# Altium schematic symbol library WR-TBL_Spring Clamp.SchLib: 367 symbols (part 1 of 6)
Pins are listed as number, name and electrical type; pins without a type are passive.

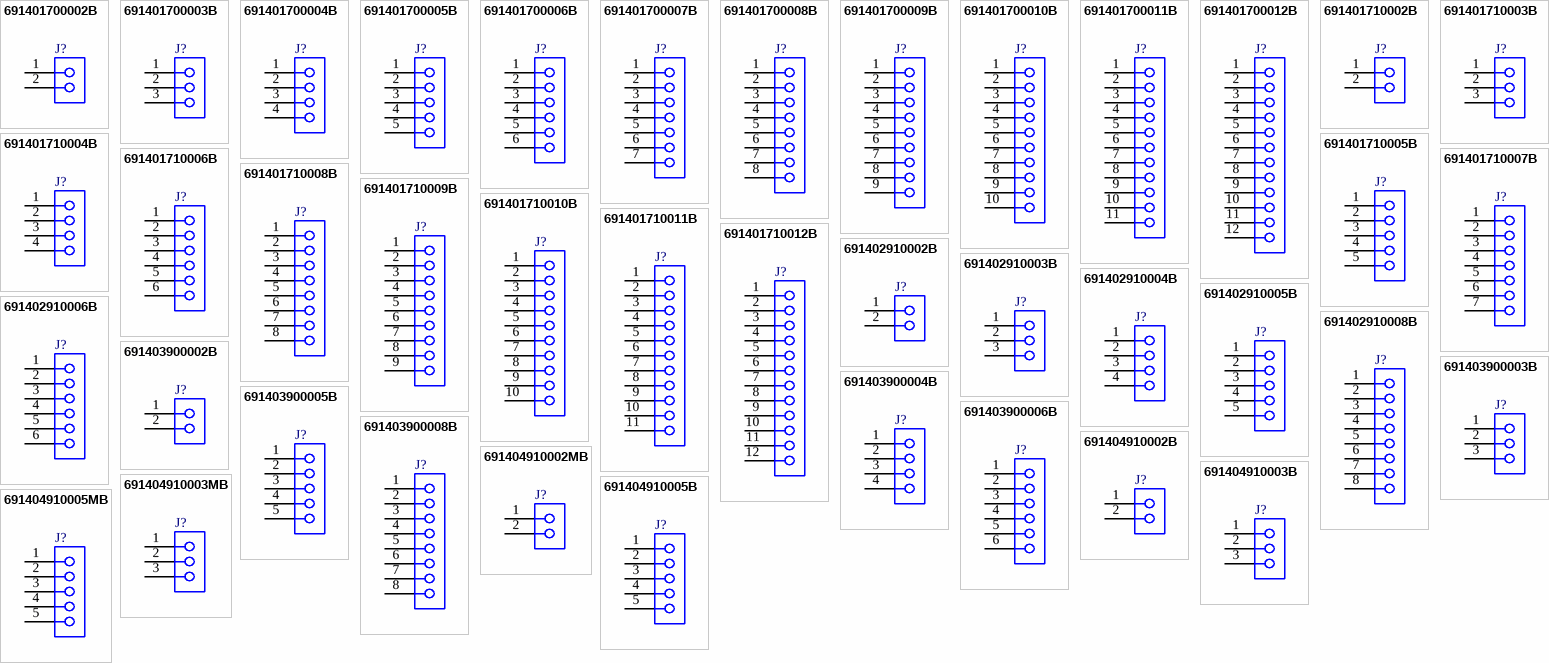
[diagram p0: symbols 691401700002B to 691404910005MB]

## 691401700002B
designator J?  (value not drawn)
WR-TBL Series 401B Vertical Entry, THT, pitch 5mm, 02p; Manufacturer: Wurth Elektronik; Modularity: No; Rated Current: 10A; Wire Section: 14 to 24 (AWG) 0.2 to 2.5 (mm^2); Working Voltage: 300V (AC); Manufacturer Part Number: 691401700002B; Product Series: WR-TBL; ComponentLink1Description: Website Link; ComponentLink1URL: https://www.we-online.com; ComponentLink2Description: Datasheet Link; ComponentLink2URL: https://www.we-online.com/components/products/datasheet/691401700002B; Mount: Through Hole; Operating Temperature Min: -40degC; Operating Temperature Max: 105degC; Packaging: Box; Application: Screwless; Number of Pins: 2; Number of Rows: 1; Orientation: Vertical; Lead Pitch: 5mm
footprint 691401700002B
pins: 1, 2

## 691401700003B
designator J?  (value not drawn)
WR-TBL Series 401B Vertical Entry, THT, pitch 5mm, 03p; Manufacturer: Wurth Elektronik; Modularity: No; Rated Current: 10A; Wire Section: 14 to 24 (AWG) 0.2 to 2.5 (mm^2); Working Voltage: 300V (AC); Manufacturer Part Number: 691401700003B; Product Series: WR-TBL; ComponentLink1Description: Website Link; ComponentLink1URL: https://www.we-online.com; ComponentLink2Description: Datasheet Link; ComponentLink2URL: https://www.we-online.com/components/products/datasheet/691401700003B; Mount: Through Hole; Operating Temperature Min: -40degC; Operating Temperature Max: 105degC; Packaging: Box; Application: Screwless; Number of Pins: 3; Number of Rows: 1; Orientation: Vertical; Lead Pitch: 5mm
footprint 691401700003B
pins: 1, 2, 3

## 691401700004B
designator J?  (value not drawn)
WR-TBL Series 401B Vertical Entry, THT, pitch 5mm, 04p; Manufacturer: Wurth Elektronik; Modularity: No; Rated Current: 10A; Wire Section: 14 to 24 (AWG) 0.2 to 2.5 (mm^2); Working Voltage: 300V (AC); Manufacturer Part Number: 691401700004B; Product Series: WR-TBL; ComponentLink1Description: Website Link; ComponentLink1URL: https://www.we-online.com; ComponentLink2Description: Datasheet Link; ComponentLink2URL: https://www.we-online.com/components/products/datasheet/691401700004B; Mount: Through Hole; Operating Temperature Min: -40degC; Operating Temperature Max: 105degC; Packaging: Box; Application: Screwless; Number of Pins: 4; Number of Rows: 1; Orientation: Vertical; Lead Pitch: 5mm
footprint 691401700004B
pins: 1, 2, 3, 4

## 691401700005B
designator J?  (value not drawn)
WR-TBL Series 401B Vertical Entry, THT, pitch 5mm, 05p; Manufacturer: Wurth Elektronik; Modularity: No; Rated Current: 10A; Wire Section: 14 to 24 (AWG) 0.2 to 2.5 (mm^2); Working Voltage: 300V (AC); Manufacturer Part Number: 691401700005B; Product Series: WR-TBL; ComponentLink1Description: Website Link; ComponentLink1URL: https://www.we-online.com; ComponentLink2Description: Datasheet Link; ComponentLink2URL: https://www.we-online.com/components/products/datasheet/691401700005B; Mount: Through Hole; Operating Temperature Min: -40degC; Operating Temperature Max: 105degC; Packaging: Box; Application: Screwless; Number of Pins: 5; Number of Rows: 1; Orientation: Vertical; Lead Pitch: 5mm
footprint 691401700005B
pins: 1, 2, 3, 4, 5

## 691401700006B
designator J?  (value not drawn)
WR-TBL Series 401B Vertical Entry, THT, pitch 5mm, 06p; Manufacturer: Wurth Elektronik; Modularity: No; Rated Current: 10A; Wire Section: 14 to 24 (AWG) 0.2 to 2.5 (mm^2); Working Voltage: 300V (AC); Manufacturer Part Number: 691401700006B; Product Series: WR-TBL; ComponentLink1Description: Website Link; ComponentLink1URL: https://www.we-online.com; ComponentLink2Description: Datasheet Link; ComponentLink2URL: https://www.we-online.com/components/products/datasheet/691401700006B; Mount: Through Hole; Operating Temperature Min: -40degC; Operating Temperature Max: 105degC; Packaging: Box; Application: Screwless; Number of Pins: 6; Number of Rows: 1; Orientation: Vertical; Lead Pitch: 5mm
footprint 691401700006B
pins: 1, 2, 3, 4, 5, 6

## 691401700007B
designator J?  (value not drawn)
WR-TBL Series 401B Vertical Entry, THT, pitch 5mm, 07p; Manufacturer: Wurth Elektronik; Modularity: No; Rated Current: 10A; Wire Section: 14 to 24 (AWG) 0.2 to 2.5 (mm^2); Working Voltage: 300V (AC); Manufacturer Part Number: 691401700007B; Product Series: WR-TBL; ComponentLink1Description: Website Link; ComponentLink1URL: https://www.we-online.com; ComponentLink2Description: Datasheet Link; ComponentLink2URL: https://www.we-online.com/components/products/datasheet/691401700007B; Mount: Through Hole; Operating Temperature Min: -40degC; Operating Temperature Max: 105degC; Packaging: Box; Application: Screwless; Number of Pins: 7; Number of Rows: 1; Orientation: Vertical; Lead Pitch: 5mm
footprint 691401700007B
pins: 1, 2, 3, 4, 5, 6, 7

## 691401700008B
designator J?  (value not drawn)
WR-TBL Series 401B Vertical Entry, THT, pitch 5mm, 08p; Manufacturer: Wurth Elektronik; Modularity: No; Rated Current: 10A; Wire Section: 14 to 24 (AWG) 0.2 to 2.5 (mm^2); Working Voltage: 300V (AC); Manufacturer Part Number: 691401700008B; Product Series: WR-TBL; ComponentLink1Description: Website Link; ComponentLink1URL: https://www.we-online.com; ComponentLink2Description: Datasheet Link; ComponentLink2URL: https://www.we-online.com/components/products/datasheet/691401700008B; Mount: Through Hole; Operating Temperature Min: -40degC; Operating Temperature Max: 105degC; Packaging: Box; Application: Screwless; Number of Pins: 8; Number of Rows: 1; Orientation: Vertical; Lead Pitch: 5mm
footprint 691401700008B
pins: 1, 2, 3, 4, 5, 6, 7, 8

## 691401700009B
designator J?  (value not drawn)
WR-TBL Series 401B Vertical Entry, THT, pitch 5mm, 09p; Manufacturer: Wurth Elektronik; Modularity: No; Rated Current: 10A; Wire Section: 14 to 24 (AWG) 0.2 to 2.5 (mm^2); Working Voltage: 300V (AC); Manufacturer Part Number: 691401700009B; Product Series: WR-TBL; ComponentLink1Description: Website Link; ComponentLink1URL: https://www.we-online.com; ComponentLink2Description: Datasheet Link; ComponentLink2URL: https://www.we-online.com/components/products/datasheet/691401700009B; Mount: Through Hole; Operating Temperature Min: -40degC; Operating Temperature Max: 105degC; Packaging: Box; Application: Screwless; Number of Pins: 9; Number of Rows: 1; Orientation: Vertical; Lead Pitch: 5mm
footprint 691401700009B
pins: 1, 2, 3, 4, 5, 6, 7, 8, 9

## 691401700010B
designator J?  (value not drawn)
WR-TBL Series 401B Vertical Entry, THT, pitch 5mm, 10p; Manufacturer: Wurth Elektronik; Modularity: No; Rated Current: 10A; Wire Section: 14 to 24 (AWG) 0.2 to 2.5 (mm^2); Working Voltage: 300V (AC); Manufacturer Part Number: 691401700010B; Product Series: WR-TBL; ComponentLink1Description: Website Link; ComponentLink1URL: https://www.we-online.com; ComponentLink2Description: Datasheet Link; ComponentLink2URL: https://www.we-online.com/components/products/datasheet/691401700010B; Mount: Through Hole; Operating Temperature Min: -40degC; Operating Temperature Max: 105degC; Packaging: Box; Application: Screwless; Number of Pins: 10; Number of Rows: 1; Orientation: Vertical; Lead Pitch: 5mm
footprint 691401700010B
pins: 1, 2, 3, 4, 5, 6, 7, 8, 9, 10

## 691401700011B
designator J?  (value not drawn)
WR-TBL Series 401B Vertical Entry, THT, pitch 5mm, 11p; Manufacturer: Wurth Elektronik; Modularity: No; Rated Current: 10A; Wire Section: 14 to 24 (AWG) 0.2 to 2.5 (mm^2); Working Voltage: 300V (AC); Manufacturer Part Number: 691401700011B; Product Series: WR-TBL; ComponentLink1Description: Website Link; ComponentLink1URL: https://www.we-online.com; ComponentLink2Description: Datasheet Link; ComponentLink2URL: https://www.we-online.com/components/products/datasheet/691401700011B; Mount: Through Hole; Operating Temperature Min: -40degC; Operating Temperature Max: 105degC; Packaging: Box; Application: Screwless; Number of Pins: 11; Number of Rows: 1; Orientation: Vertical; Lead Pitch: 5mm
footprint 691401700011B
pins: 1, 2, 3, 4, 5, 6, 7, 8, 9, 10, 11

## 691401700012B
designator J?  (value not drawn)
WR-TBL Series 401B Vertical Entry, THT, pitch 5mm, 12p; Manufacturer: Wurth Elektronik; Modularity: No; Rated Current: 10A; Wire Section: 14 to 24 (AWG) 0.2 to 2.5 (mm^2); Working Voltage: 300V (AC); Manufacturer Part Number: 691401700012B; Product Series: WR-TBL; ComponentLink1Description: Website Link; ComponentLink1URL: https://www.we-online.com; ComponentLink2Description: Datasheet Link; ComponentLink2URL: https://www.we-online.com/components/products/datasheet/691401700012B; Mount: Through Hole; Operating Temperature Min: -40degC; Operating Temperature Max: 105degC; Packaging: Box; Application: Screwless; Number of Pins: 12; Number of Rows: 1; Orientation: Vertical; Lead Pitch: 5mm
footprint 691401700012B
pins: 1, 2, 3, 4, 5, 6, 7, 8, 9, 10, 11, 12

## 691401710002B
designator J?  (value not drawn)
WR-TBL Series 401B Horizontal Entry, THT, pitch 5mm, 02p; Manufacturer: Wurth Elektronik; Modularity: No; Rated Current: 10A; Wire Section: 14 to 24 (AWG) 0.2 to 2.5 (mm^2); Working Voltage: 300V (AC); Manufacturer Part Number: 691401710002B; Product Series: WR-TBL; ComponentLink1Description: Website Link; ComponentLink1URL: https://www.we-online.com; ComponentLink2Description: Datasheet Link; ComponentLink2URL: https://www.we-online.com/components/products/datasheet/691401710002B; Mount: Through Hole; Operating Temperature Min: -40degC; Operating Temperature Max: 105degC; Packaging: Box; Application: Screwless; Number of Pins: 2; Number of Rows: 1; Orientation: Horizontal; Lead Pitch: 5mm
footprint 691401710002B
pins: 1, 2

## 691401710003B
designator J?  (value not drawn)
WR-TBL Series 401B Horizontal Entry, THT, pitch 5mm, 03p; Manufacturer: Wurth Elektronik; Modularity: No; Rated Current: 10A; Wire Section: 14 to 24 (AWG) 0.2 to 2.5 (mm^2); Working Voltage: 300V (AC); Manufacturer Part Number: 691401710003B; Product Series: WR-TBL; ComponentLink1Description: Website Link; ComponentLink1URL: https://www.we-online.com; ComponentLink2Description: Datasheet Link; ComponentLink2URL: https://www.we-online.com/components/products/datasheet/691401710003B; Mount: Through Hole; Operating Temperature Min: -40degC; Operating Temperature Max: 105degC; Packaging: Box; Application: Screwless; Number of Pins: 3; Number of Rows: 1; Orientation: Horizontal; Lead Pitch: 5mm
footprint 691401710003B
pins: 1, 2, 3

## 691401710004B
designator J?  (value not drawn)
WR-TBL Series 401B Horizontal Entry, THT, pitch 5mm, 04p; Manufacturer: Wurth Elektronik; Modularity: No; Rated Current: 10A; Wire Section: 14 to 24 (AWG) 0.2 to 2.5 (mm^2); Working Voltage: 300V (AC); Manufacturer Part Number: 691401710004B; Product Series: WR-TBL; ComponentLink1Description: Website Link; ComponentLink1URL: https://www.we-online.com; ComponentLink2Description: Datasheet Link; ComponentLink2URL: https://www.we-online.com/components/products/datasheet/691401710004B; Mount: Through Hole; Operating Temperature Min: -40degC; Operating Temperature Max: 105degC; Packaging: Box; Application: Screwless; Number of Pins: 4; Number of Rows: 1; Orientation: Horizontal; Lead Pitch: 5mm
footprint 691401710004B
pins: 1, 2, 3, 4

## 691401710005B
designator J?  (value not drawn)
WR-TBL Series 401B Horizontal Entry, THT, pitch 5mm, 05p; Manufacturer: Wurth Elektronik; Modularity: No; Rated Current: 10A; Wire Section: 14 to 24 (AWG) 0.2 to 2.5 (mm^2); Working Voltage: 300V (AC); Manufacturer Part Number: 691401710005B; Product Series: WR-TBL; ComponentLink1Description: Website Link; ComponentLink1URL: https://www.we-online.com; ComponentLink2Description: Datasheet Link; ComponentLink2URL: https://www.we-online.com/components/products/datasheet/691401710005B; Mount: Through Hole; Operating Temperature Min: -40degC; Operating Temperature Max: 105degC; Packaging: Box; Application: Screwless; Number of Pins: 5; Number of Rows: 1; Orientation: Horizontal; Lead Pitch: 5mm
footprint 691401710005B
pins: 1, 2, 3, 4, 5

## 691401710006B
designator J?  (value not drawn)
WR-TBL Series 401B Horizontal Entry, THT, pitch 5mm, 06p; Manufacturer: Wurth Elektronik; Modularity: No; Rated Current: 10A; Wire Section: 14 to 24 (AWG) 0.2 to 2.5 (mm^2); Working Voltage: 300V (AC); Manufacturer Part Number: 691401710006B; Product Series: WR-TBL; ComponentLink1Description: Website Link; ComponentLink1URL: https://www.we-online.com; ComponentLink2Description: Datasheet Link; ComponentLink2URL: https://www.we-online.com/components/products/datasheet/691401710006B; Mount: Through Hole; Operating Temperature Min: -40degC; Operating Temperature Max: 105degC; Packaging: Box; Application: Screwless; Number of Pins: 6; Number of Rows: 1; Orientation: Horizontal; Lead Pitch: 5mm
footprint 691401710006B
pins: 1, 2, 3, 4, 5, 6

## 691401710007B
designator J?  (value not drawn)
WR-TBL Series 401B Horizontal Entry, THT, pitch 5mm, 07p; Manufacturer: Wurth Elektronik; Modularity: No; Rated Current: 10A; Wire Section: 14 to 24 (AWG) 0.2 to 2.5 (mm^2); Working Voltage: 300V (AC); Manufacturer Part Number: 691401710007B; Product Series: WR-TBL; ComponentLink1Description: Website Link; ComponentLink1URL: https://www.we-online.com; ComponentLink2Description: Datasheet Link; ComponentLink2URL: https://www.we-online.com/components/products/datasheet/691401710007B; Mount: Through Hole; Operating Temperature Min: -40degC; Operating Temperature Max: 105degC; Packaging: Box; Application: Screwless; Number of Pins: 7; Number of Rows: 1; Orientation: Horizontal; Lead Pitch: 5mm
footprint 691401710007B
pins: 1, 2, 3, 4, 5, 6, 7

## 691401710008B
designator J?  (value not drawn)
WR-TBL Series 401B Horizontal Entry, THT, pitch 5mm, 08p; Manufacturer: Wurth Elektronik; Modularity: No; Rated Current: 10A; Wire Section: 14 to 24 (AWG) 0.2 to 2.5 (mm^2); Working Voltage: 300V (AC); Manufacturer Part Number: 691401710008B; Product Series: WR-TBL; ComponentLink1Description: Website Link; ComponentLink1URL: https://www.we-online.com; ComponentLink2Description: Datasheet Link; ComponentLink2URL: https://www.we-online.com/components/products/datasheet/691401710008B; Mount: Through Hole; Operating Temperature Min: -40degC; Operating Temperature Max: 105degC; Packaging: Box; Application: Screwless; Number of Pins: 8; Number of Rows: 1; Orientation: Horizontal; Lead Pitch: 5mm
footprint 691401710008B
pins: 1, 2, 3, 4, 5, 6, 7, 8

## 691401710009B
designator J?  (value not drawn)
WR-TBL Series 401B Horizontal Entry, THT, pitch 5mm, 09p; Manufacturer: Wurth Elektronik; Modularity: No; Rated Current: 10A; Wire Section: 14 to 24 (AWG) 0.2 to 2.5 (mm^2); Working Voltage: 300V (AC); Manufacturer Part Number: 691401710009B; Product Series: WR-TBL; ComponentLink1Description: Website Link; ComponentLink1URL: https://www.we-online.com; ComponentLink2Description: Datasheet Link; ComponentLink2URL: https://www.we-online.com/components/products/datasheet/691401710009B; Mount: Through Hole; Operating Temperature Min: -40degC; Operating Temperature Max: 105degC; Packaging: Box; Application: Screwless; Number of Pins: 9; Number of Rows: 1; Orientation: Horizontal; Lead Pitch: 5mm
footprint 691401710009B
pins: 1, 2, 3, 4, 5, 6, 7, 8, 9

## 691401710010B
designator J?  (value not drawn)
WR-TBL Series 401B Horizontal Entry, THT, pitch 5mm, 10p; Manufacturer: Wurth Elektronik; Modularity: No; Rated Current: 10A; Wire Section: 14 to 24 (AWG) 0.2 to 2.5 (mm^2); Working Voltage: 300V (AC); Manufacturer Part Number: 691401710010B; Product Series: WR-TBL; ComponentLink1Description: Website Link; ComponentLink1URL: https://www.we-online.com; ComponentLink2Description: Datasheet Link; ComponentLink2URL: https://www.we-online.com/components/products/datasheet/691401710010B; Mount: Through Hole; Operating Temperature Min: -40degC; Operating Temperature Max: 105degC; Packaging: Box; Application: Screwless; Number of Pins: 10; Number of Rows: 1; Orientation: Horizontal; Lead Pitch: 5mm
footprint 691401710010B
pins: 1, 2, 3, 4, 5, 6, 7, 8, 9, 10

## 691401710011B
designator J?  (value not drawn)
WR-TBL Series 401B Horizontal Entry, THT, pitch 5mm, 11p; Manufacturer: Wurth Elektronik; Modularity: No; Rated Current: 10A; Wire Section: 14 to 24 (AWG) 0.2 to 2.5 (mm^2); Working Voltage: 300V (AC); Manufacturer Part Number: 691401710011B; Product Series: WR-TBL; ComponentLink1Description: Website Link; ComponentLink1URL: https://www.we-online.com; ComponentLink2Description: Datasheet Link; ComponentLink2URL: https://www.we-online.com/components/products/datasheet/691401710011B; Mount: Through Hole; Operating Temperature Min: -40degC; Operating Temperature Max: 105degC; Packaging: Box; Application: Screwless; Number of Pins: 11; Number of Rows: 1; Orientation: Horizontal; Lead Pitch: 5mm
footprint 691401710011B
pins: 1, 2, 3, 4, 5, 6, 7, 8, 9, 10, 11

## 691401710012B
designator J?  (value not drawn)
WR-TBL Series 401B Horizontal Entry, THT, pitch 5mm, 12p; Manufacturer: Wurth Elektronik; Modularity: No; Rated Current: 10A; Wire Section: 14 to 24 (AWG) 0.2 to 2.5 (mm^2); Working Voltage: 300V (AC); Manufacturer Part Number: 691401710012B; Product Series: WR-TBL; ComponentLink1Description: Website Link; ComponentLink1URL: https://www.we-online.com; ComponentLink2Description: Datasheet Link; ComponentLink2URL: https://www.we-online.com/components/products/datasheet/691401710012B; Mount: Through Hole; Operating Temperature Min: -40degC; Operating Temperature Max: 105degC; Packaging: Box; Application: Screwless; Number of Pins: 12; Number of Rows: 1; Orientation: Horizontal; Lead Pitch: 5mm
footprint 691401710012B
pins: 1, 2, 3, 4, 5, 6, 7, 8, 9, 10, 11, 12

## 691402910002B
designator J?  (value not drawn)
WR-TBL Series 4029 Horizontal Entry, THT, pitch 2.54mm, 02p; Manufacturer: Wurth Elektronik; Modularity: No; Rated Current: 6A; Wire Section: 20 to 26 (AWG) 0.518 to 0.129 (mm^2); Working Voltage: 150V (AC); Manufacturer Part Number: 691402910002B; Product Series: WR-TBL; ComponentLink1Description: Website Link; ComponentLink1URL: https://www.we-online.com; ComponentLink2Description: Datasheet Link; ComponentLink2URL: https://www.we-online.com/components/products/datasheet/691402910002B; Mount: Through Hole; Operating Temperature Min: -40degC; Operating Temperature Max: 105degC; Packaging: Box; Application: Screwless; Number of Pins: 2; Number of Rows: 1; Orientation: Horizontal; Lead Pitch: 2.54mm
footprint 691402910002B
pins: 1, 2

## 691402910003B
designator J?  (value not drawn)
WR-TBL Series 4029 Horizontal Entry, THT, pitch 2.54mm, 03p; Manufacturer: Wurth Elektronik; Modularity: No; Rated Current: 6A; Wire Section: 20 to 26 (AWG) 0.518 to 0.129 (mm^2); Working Voltage: 150V (AC); Manufacturer Part Number: 691402910003B; Product Series: WR-TBL; ComponentLink1Description: Website Link; ComponentLink1URL: https://www.we-online.com; ComponentLink2Description: Datasheet Link; ComponentLink2URL: https://www.we-online.com/components/products/datasheet/691402910003B; Mount: Through Hole; Operating Temperature Min: -40degC; Operating Temperature Max: 105degC; Packaging: Box; Application: Screwless; Number of Pins: 3; Number of Rows: 1; Orientation: Horizontal; Lead Pitch: 2.54mm
footprint 691402910003B
pins: 1, 2, 3

## 691402910004B
designator J?  (value not drawn)
WR-TBL Series 4029 Horizontal Entry, THT, pitch 2.54mm, 04p; Manufacturer: Wurth Elektronik; Modularity: No; Rated Current: 6A; Wire Section: 20 to 26 (AWG) 0.518 to 0.129 (mm^2); Working Voltage: 150V (AC); Manufacturer Part Number: 691402910004B; Product Series: WR-TBL; ComponentLink1Description: Website Link; ComponentLink1URL: https://www.we-online.com; ComponentLink2Description: Datasheet Link; ComponentLink2URL: https://www.we-online.com/components/products/datasheet/691402910004B; Mount: Through Hole; Operating Temperature Min: -40degC; Operating Temperature Max: 105degC; Packaging: Box; Application: Screwless; Number of Pins: 4; Number of Rows: 1; Orientation: Horizontal; Lead Pitch: 2.54mm
footprint 691402910004B
pins: 1, 2, 3, 4

## 691402910005B
designator J?  (value not drawn)
WR-TBL Series 4029 Horizontal Entry, THT, pitch 2.54mm, 05p; Manufacturer: Wurth Elektronik; Modularity: No; Rated Current: 6A; Wire Section: 20 to 26 (AWG) 0.518 to 0.129 (mm^2); Working Voltage: 150V (AC); Manufacturer Part Number: 691402910005B; Product Series: WR-TBL; ComponentLink1Description: Website Link; ComponentLink1URL: https://www.we-online.com; ComponentLink2Description: Datasheet Link; ComponentLink2URL: https://www.we-online.com/components/products/datasheet/691402910005B; Mount: Through Hole; Operating Temperature Min: -40degC; Operating Temperature Max: 105degC; Packaging: Box; Application: Screwless; Number of Pins: 5; Number of Rows: 1; Orientation: Horizontal; Lead Pitch: 2.54mm
footprint 691402910005B
pins: 1, 2, 3, 4, 5

## 691402910006B
designator J?  (value not drawn)
WR-TBL Series 4029 Horizontal Entry, THT, pitch 2.54mm, 06p; Manufacturer: Wurth Elektronik; Modularity: No; Rated Current: 6A; Wire Section: 20 to 26 (AWG) 0.518 to 0.129 (mm^2); Working Voltage: 150V (AC); Manufacturer Part Number: 691402910006B; Product Series: WR-TBL; ComponentLink1Description: Website Link; ComponentLink1URL: https://www.we-online.com; ComponentLink2Description: Datasheet Link; ComponentLink2URL: https://www.we-online.com/components/products/datasheet/691402910006B; Mount: Through Hole; Operating Temperature Min: -40degC; Operating Temperature Max: 105degC; Packaging: Box; Application: Screwless; Number of Pins: 6; Number of Rows: 1; Orientation: Horizontal; Lead Pitch: 2.54mm
footprint 691402910006B
pins: 1, 2, 3, 4, 5, 6

## 691402910008B
designator J?  (value not drawn)
WR-TBL Series 4029 Horizontal Entry, THT, pitch 2.54mm, 08p; Manufacturer: Wurth Elektronik; Modularity: No; Rated Current: 6A; Wire Section: 20 to 26 (AWG) 0.518 to 0.129 (mm^2); Working Voltage: 150V (AC); Manufacturer Part Number: 691402910008B; Product Series: WR-TBL; ComponentLink1Description: Website Link; ComponentLink1URL: https://www.we-online.com; ComponentLink2Description: Datasheet Link; ComponentLink2URL: https://www.we-online.com/components/products/datasheet/691402910008B; Mount: Through Hole; Operating Temperature Min: -40degC; Operating Temperature Max: 105degC; Packaging: Box; Application: Screwless; Number of Pins: 8; Number of Rows: 1; Orientation: Horizontal; Lead Pitch: 2.54mm
footprint 691402910008B
pins: 1, 2, 3, 4, 5, 6, 7, 8

## 691403900002B
designator J?  (value not drawn)
WR-TBL Series 4039 Vertical Entry, THT, pitch 2.54mm, 02p; Manufacturer: Wurth Elektronik; Modularity: No; Rated Current: 6A; Wire Section: 20 to 26 (AWG) 0.518 to 0.129 (mm^2); Working Voltage: 150V (AC); Manufacturer Part Number: 691403900002B; Product Series: WR-TBL; ComponentLink1Description: Website Link; ComponentLink1URL: https://www.we-online.com; ComponentLink2Description: Datasheet Link; ComponentLink2URL: https://www.we-online.com/components/products/datasheet/691403900002B; Mount: Through Hole; Operating Temperature Min: -40degC; Operating Temperature Max: 105degC; Packaging: Box; Application: Screwless; Number of Pins: 2; Number of Rows: 1; Orientation: Vertical; Lead Pitch: 2.54mm
footprint 691403900002B
pins: 1, 2

## 691403900003B
designator J?  (value not drawn)
WR-TBL Series 4039 Vertical Entry, THT, pitch 2.54mm, 03p; Manufacturer: Wurth Elektronik; Modularity: No; Rated Current: 6A; Wire Section: 20 to 26 (AWG) 0.518 to 0.129 (mm^2); Working Voltage: 150V (AC); Manufacturer Part Number: 691403900003B; Product Series: WR-TBL; ComponentLink1Description: Website Link; ComponentLink1URL: https://www.we-online.com; ComponentLink2Description: Datasheet Link; ComponentLink2URL: https://www.we-online.com/components/products/datasheet/691403900003B; Mount: Through Hole; Operating Temperature Min: -40degC; Operating Temperature Max: 105degC; Packaging: Box; Application: Screwless; Number of Pins: 3; Number of Rows: 1; Orientation: Vertical; Lead Pitch: 2.54mm
footprint 691403900003B
pins: 1, 2, 3

## 691403900004B
designator J?  (value not drawn)
WR-TBL Series 4039 Vertical Entry, THT, pitch 2.54mm, 04p; Manufacturer: Wurth Elektronik; Modularity: No; Rated Current: 6A; Wire Section: 20 to 26 (AWG) 0.518 to 0.129 (mm^2); Working Voltage: 150V (AC); Manufacturer Part Number: 691403900004B; Product Series: WR-TBL; ComponentLink1Description: Website Link; ComponentLink1URL: https://www.we-online.com; ComponentLink2Description: Datasheet Link; ComponentLink2URL: https://www.we-online.com/components/products/datasheet/691403900004B; Mount: Through Hole; Operating Temperature Min: -40degC; Operating Temperature Max: 105degC; Packaging: Box; Application: Screwless; Number of Pins: 4; Number of Rows: 1; Orientation: Vertical; Lead Pitch: 2.54mm
footprint 691403900004B
pins: 1, 2, 3, 4

## 691403900005B
designator J?  (value not drawn)
WR-TBL Series 4039 Vertical Entry, THT, pitch 2.54mm, 05p; Manufacturer: Wurth Elektronik; Modularity: No; Rated Current: 6A; Wire Section: 20 to 26 (AWG) 0.518 to 0.129 (mm^2); Working Voltage: 150V (AC); Manufacturer Part Number: 691403900005B; Product Series: WR-TBL; ComponentLink1Description: Website Link; ComponentLink1URL: https://www.we-online.com; ComponentLink2Description: Datasheet Link; ComponentLink2URL: https://www.we-online.com/components/products/datasheet/691403900005B; Mount: Through Hole; Operating Temperature Min: -40degC; Operating Temperature Max: 105degC; Packaging: Box; Application: Screwless; Number of Pins: 5; Number of Rows: 1; Orientation: Vertical; Lead Pitch: 2.54mm
footprint 691403900005B
pins: 1, 2, 3, 4, 5

## 691403900006B
designator J?  (value not drawn)
WR-TBL Series 4039 Vertical Entry, THT, pitch 2.54mm, 06p; Manufacturer: Wurth Elektronik; Modularity: No; Rated Current: 6A; Wire Section: 20 to 26 (AWG) 0.518 to 0.129 (mm^2); Working Voltage: 150V (AC); Manufacturer Part Number: 691403900006B; Product Series: WR-TBL; ComponentLink1Description: Website Link; ComponentLink1URL: https://www.we-online.com; ComponentLink2Description: Datasheet Link; ComponentLink2URL: https://www.we-online.com/components/products/datasheet/691403900006B; Mount: Through Hole; Operating Temperature Min: -40degC; Operating Temperature Max: 105degC; Packaging: Box; Application: Screwless; Number of Pins: 6; Number of Rows: 1; Orientation: Vertical; Lead Pitch: 2.54mm
footprint 691403900006B
pins: 1, 2, 3, 4, 5, 6

## 691403900008B
designator J?  (value not drawn)
WR-TBL Series 4039 Vertical Entry, THT, pitch 2.54mm, 08p; Manufacturer: Wurth Elektronik; Modularity: No; Rated Current: 6A; Wire Section: 20 to 26 (AWG) 0.518 to 0.129 (mm^2); Working Voltage: 150V (AC); Manufacturer Part Number: 691403900008B; Product Series: WR-TBL; ComponentLink1Description: Website Link; ComponentLink1URL: https://www.we-online.com; ComponentLink2Description: Datasheet Link; ComponentLink2URL: https://www.we-online.com/components/products/datasheet/691403900008B; Mount: Through Hole; Operating Temperature Min: -40degC; Operating Temperature Max: 105degC; Packaging: Box; Application: Screwless; Number of Pins: 8; Number of Rows: 1; Orientation: Vertical; Lead Pitch: 2.54mm
footprint 691403900008B
pins: 1, 2, 3, 4, 5, 6, 7, 8

## 691404910002B
designator J?  (value not drawn)
WR-TBL Series 4049B Horizontal Power Connector, THT, pitch 7.5mm, 02p; Manufacturer: Wurth Elektronik; Modularity: No; Rated Current: 30A; Wire Section: 10 to 24 (AWG) 5.26 to 0.205 (mm^2); Working Voltage: 600V (AC); Manufacturer Part Number: 691404910002B; Product Series: WR-TBL; ComponentLink1Description: Website Link; ComponentLink1URL: https://www.we-online.com; ComponentLink2Description: Datasheet Link; ComponentLink2URL: https://www.we-online.com/components/products/datasheet/691404910002B; Mount: Through Hole; Operating Temperature Min: -40degC; Operating Temperature Max: 105degC; Packaging: Box; Application: Screwless; Number of Pins: 2; Number of Rows: 1; Orientation: Horizontal Power Connector; Lead Pitch: 7.5mm
footprint 691404910002B
pins: 1, 2

## 691404910002MB
designator J?  (value not drawn)
WR-TBL Series 4049MB Horizontal Power Connector, THT, pitch 7.5mm, 02p; Manufacturer: Wurth Elektronik; Modularity: No; Rated Current: 30A; Wire Section: 10 to 24 (AWG) 5.26 to 0.205 (mm^2); Working Voltage: 600V (AC); Manufacturer Part Number: 691404910002MB; Product Series: WR-TBL; ComponentLink1Description: Website Link; ComponentLink1URL: https://www.we-online.com; ComponentLink2Description: Datasheet Link; ComponentLink2URL: https://www.we-online.com/components/products/datasheet/691404910002MB; Mount: Through Hole; Operating Temperature Min: -40degC; Operating Temperature Max: 105degC; Packaging: Box; Application: Screwless; Number of Pins: 2; Number of Rows: 1; Orientation: Horizontal Power Connector; Lead Pitch: 7.5mm
footprint 691404910002MB
pins: 1, 2

## 691404910003B
designator J?  (value not drawn)
WR-TBL Series 4049B Horizontal Power Connector, THT, pitch 7.5mm, 03p; Manufacturer: Wurth Elektronik; Modularity: No; Rated Current: 30A; Wire Section: 10 to 24 (AWG) 5.26 to 0.205 (mm^2); Working Voltage: 600V (AC); Manufacturer Part Number: 691404910003B; Product Series: WR-TBL; ComponentLink1Description: Website Link; ComponentLink1URL: https://www.we-online.com; ComponentLink2Description: Datasheet Link; ComponentLink2URL: https://www.we-online.com/components/products/datasheet/691404910003B; Mount: Through Hole; Operating Temperature Min: -40degC; Operating Temperature Max: 105degC; Packaging: Box; Application: Screwless; Number of Pins: 3; Number of Rows: 1; Orientation: Horizontal Power Connector; Lead Pitch: 7.5mm
footprint 691404910003B
pins: 1, 2, 3

## 691404910003MB
designator J?  (value not drawn)
WR-TBL Series 4049MB Horizontal Power Connector, THT, pitch 7.5mm, 03p; Manufacturer: Wurth Elektronik; Modularity: No; Rated Current: 30A; Wire Section: 10 to 24 (AWG) 5.26 to 0.205 (mm^2); Working Voltage: 600V (AC); Manufacturer Part Number: 691404910003MB; Product Series: WR-TBL; ComponentLink1Description: Website Link; ComponentLink1URL: https://www.we-online.com; ComponentLink2Description: Datasheet Link; ComponentLink2URL: https://www.we-online.com/components/products/datasheet/691404910003MB; Mount: Through Hole; Operating Temperature Min: -40degC; Operating Temperature Max: 105degC; Packaging: Box; Application: Screwless; Number of Pins: 3; Number of Rows: 1; Orientation: Horizontal Power Connector; Lead Pitch: 7.5mm
footprint 691404910003MB
pins: 1, 2, 3

## 691404910005B
designator J?  (value not drawn)
WR-TBL Series 4049B Horizontal Power Connector, THT, pitch 7.5mm, 05p; Manufacturer: Wurth Elektronik; Modularity: No; Rated Current: 30A; Wire Section: 10 to 24 (AWG) 5.26 to 0.205 (mm^2); Working Voltage: 600V (AC); Manufacturer Part Number: 691404910005B; Product Series: WR-TBL; ComponentLink1Description: Website Link; ComponentLink1URL: https://www.we-online.com; ComponentLink2Description: Datasheet Link; ComponentLink2URL: https://www.we-online.com/components/products/datasheet/691404910005B; Mount: Through Hole; Operating Temperature Min: -40degC; Operating Temperature Max: 105degC; Packaging: Box; Application: Screwless; Number of Pins: 5; Number of Rows: 1; Orientation: Horizontal Power Connector; Lead Pitch: 7.5mm
footprint 691404910005B
pins: 1, 2, 3, 4, 5

## 691404910005MB
designator J?  (value not drawn)
WR-TBL Series 4049MB Horizontal Power Connector, THT, pitch 7.5mm, 05p; Manufacturer: Wurth Elektronik; Modularity: No; Rated Current: 30A; Wire Section: 10 to 24 (AWG) 5.26 to 0.205 (mm^2); Working Voltage: 600V (AC); Manufacturer Part Number: 691404910005MB; Product Series: WR-TBL; ComponentLink1Description: Website Link; ComponentLink1URL: https://www.we-online.com; ComponentLink2Description: Datasheet Link; ComponentLink2URL: https://www.we-online.com/components/products/datasheet/691404910005MB; Mount: Through Hole; Operating Temperature Min: -40degC; Operating Temperature Max: 105degC; Packaging: Box; Application: Screwless; Number of Pins: 5; Number of Rows: 1; Orientation: Horizontal Power Connector; Lead Pitch: 7.5mm
footprint 691404910005MB
pins: 1, 2, 3, 4, 5

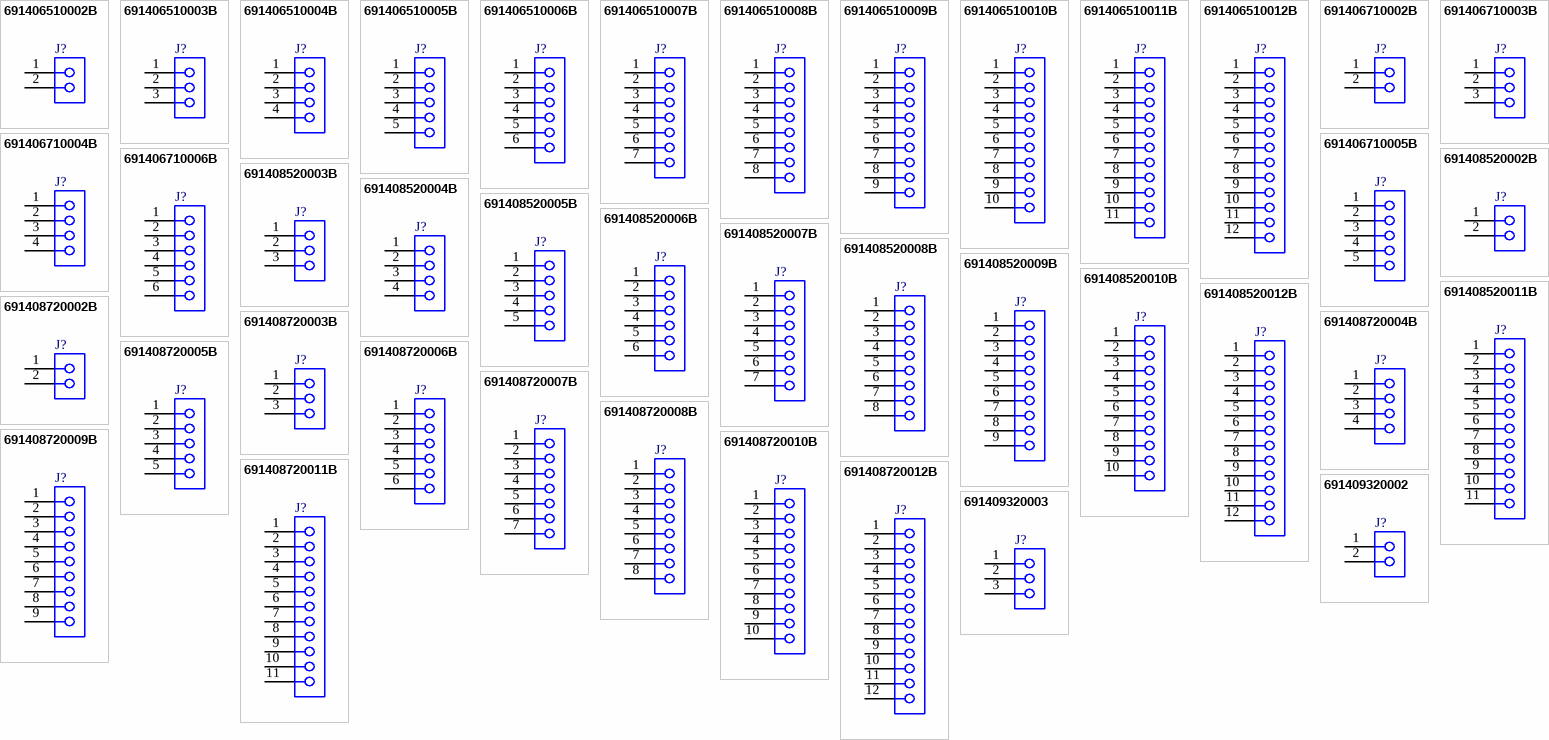
[diagram p1: symbols 691406510002B to 691409320003]

## 691406510002B
designator J?  (value not drawn)
WR-TBL Series 4067B Horizontal cable entry, THT, pitch 5.08mm, 02p; Manufacturer: Wurth Elektronik; Modularity: Yes; Rated Current: 20A; Wire Section: 24 to 12 (AWG) 0.2 to 2.5 (mm^2); Working Voltage: 300V (AC); Manufacturer Part Number: 691406510002B; Product Series: WR-TBL; ComponentLink1Description: Website Link; ComponentLink1URL: https://www.we-online.com; ComponentLink2Description: Datasheet Link; ComponentLink2URL: https://www.we-online.com/components/products/datasheet/691406510002B; Mount: Through Hole; Operating Temperature Min: -40degC; Operating Temperature Max: 105degC; Packaging: Carton; Application: Screwless Push In; Number of Pins: 2; Number of Rows: 1; Orientation: Horizontal Cable Entry; Lead Pitch: 5.08mm
footprint 691406510002B
pins: 1, 2

## 691406510003B
designator J?  (value not drawn)
WR-TBL Series 4067B Horizontal cable entry, THT, pitch 5.08mm, 03p; Manufacturer: Wurth Elektronik; Modularity: Yes; Rated Current: 20A; Wire Section: 24 to 12 (AWG) 0.2 to 2.5 (mm^2); Working Voltage: 300V (AC); Manufacturer Part Number: 691406510003B; Product Series: WR-TBL; ComponentLink1Description: Website Link; ComponentLink1URL: https://www.we-online.com; ComponentLink2Description: Datasheet Link; ComponentLink2URL: https://www.we-online.com/components/products/datasheet/691406510003B; Mount: Through Hole; Operating Temperature Min: -40degC; Operating Temperature Max: 105degC; Packaging: Carton; Application: Screwless Push In; Number of Pins: 3; Number of Rows: 1; Orientation: Horizontal Cable Entry; Lead Pitch: 5.08mm
footprint 691406510003B
pins: 1, 2, 3

## 691406510004B
designator J?  (value not drawn)
WR-TBL Series 4067B Horizontal cable entry, THT, pitch 5.08mm, 04p; Manufacturer: Wurth Elektronik; Modularity: Yes; Rated Current: 20A; Wire Section: 24 to 12 (AWG) 0.2 to 2.5 (mm^2); Working Voltage: 300V (AC); Manufacturer Part Number: 691406510004B; Product Series: WR-TBL; ComponentLink1Description: Website Link; ComponentLink1URL: https://www.we-online.com; ComponentLink2Description: Datasheet Link; ComponentLink2URL: https://www.we-online.com/components/products/datasheet/691406510004B; Mount: Through Hole; Operating Temperature Min: -40degC; Operating Temperature Max: 105degC; Packaging: Carton; Application: Screwless Push In; Number of Pins: 4; Number of Rows: 1; Orientation: Horizontal Cable Entry; Lead Pitch: 5.08mm
footprint 691406510004B
pins: 1, 2, 3, 4

## 691406510005B
designator J?  (value not drawn)
WR-TBL Series 4067B Horizontal cable entry, THT, pitch 5.08mm, 05p; Manufacturer: Wurth Elektronik; Modularity: Yes; Rated Current: 20A; Wire Section: 24 to 12 (AWG) 0.2 to 2.5 (mm^2); Working Voltage: 300V (AC); Manufacturer Part Number: 691406510005B; Product Series: WR-TBL; ComponentLink1Description: Website Link; ComponentLink1URL: https://www.we-online.com; ComponentLink2Description: Datasheet Link; ComponentLink2URL: https://www.we-online.com/components/products/datasheet/691406510005B; Mount: Through Hole; Operating Temperature Min: -40degC; Operating Temperature Max: 105degC; Packaging: Carton; Application: Screwless Push In; Number of Pins: 5; Number of Rows: 1; Orientation: Horizontal Cable Entry; Lead Pitch: 5.08mm
footprint 691406510005B
pins: 1, 2, 3, 4, 5

## 691406510006B
designator J?  (value not drawn)
WR-TBL Series 4067B Horizontal cable entry, THT, pitch 5.08mm, 06p; Manufacturer: Wurth Elektronik; Modularity: Yes; Rated Current: 20A; Wire Section: 24 to 12 (AWG) 0.2 to 2.5 (mm^2); Working Voltage: 300V (AC); Manufacturer Part Number: 691406510006B; Product Series: WR-TBL; ComponentLink1Description: Website Link; ComponentLink1URL: https://www.we-online.com; ComponentLink2Description: Datasheet Link; ComponentLink2URL: https://www.we-online.com/components/products/datasheet/691406510006B; Mount: Through Hole; Operating Temperature Min: -40degC; Operating Temperature Max: 105degC; Packaging: Carton; Application: Screwless Push In; Number of Pins: 6; Number of Rows: 1; Orientation: Horizontal Cable Entry; Lead Pitch: 5.08mm
footprint 691406510006B
pins: 1, 2, 3, 4, 5, 6

## 691406510007B
designator J?  (value not drawn)
WR-TBL Series 4067B Horizontal cable entry, THT, pitch 5.08mm, 07p; Manufacturer: Wurth Elektronik; Modularity: Yes; Rated Current: 20A; Working Voltage: 300V (AC); Manufacturer Part Number: 691406510007B; Product Series: WR-TBL; ComponentLink1Description: Website Link; ComponentLink1URL: https://www.we-online.com; ComponentLink2Description: Datasheet Link; ComponentLink2URL: https://www.we-online.com/components/products/datasheet/691406510007B; Mount: Through Hole; Operating Temperature Min: -40degC; Operating Temperature Max: 105degC; Packaging: Carton; Application: Screwless Push In; Number of Pins: 7; Number of Rows: 1; Orientation: Horizontal Cable Entry; Lead Pitch: 5.08mm
footprint 691406510007B
pins: 1, 2, 3, 4, 5, 6, 7

## 691406510008B
designator J?  (value not drawn)
WR-TBL Series 4067B Horizontal cable entry, THT, pitch 5.08mm, 08p; Manufacturer: Wurth Elektronik; Modularity: Yes; Rated Current: 20A; Working Voltage: 300V (AC); Manufacturer Part Number: 691406510008B; Product Series: WR-TBL; ComponentLink1Description: Website Link; ComponentLink1URL: https://www.we-online.com; ComponentLink2Description: Datasheet Link; ComponentLink2URL: https://www.we-online.com/components/products/datasheet/691406510008B; Mount: Through Hole; Operating Temperature Min: -40degC; Operating Temperature Max: 105degC; Packaging: Carton; Application: Screwless Push In; Number of Pins: 8; Number of Rows: 1; Orientation: Horizontal Cable Entry; Lead Pitch: 5.08mm
footprint 691406510008B
pins: 1, 2, 3, 4, 5, 6, 7, 8

## 691406510009B
designator J?  (value not drawn)
WR-TBL Series 4067B Horizontal cable entry, THT, pitch 5.08mm, 09p; Manufacturer: Wurth Elektronik; Modularity: Yes; Rated Current: 20A; Working Voltage: 300V (AC); Manufacturer Part Number: 691406510009B; Product Series: WR-TBL; ComponentLink1Description: Website Link; ComponentLink1URL: https://www.we-online.com; ComponentLink2Description: Datasheet Link; ComponentLink2URL: https://www.we-online.com/components/products/datasheet/691406510009B; Mount: Through Hole; Operating Temperature Min: -40degC; Operating Temperature Max: 105degC; Packaging: Carton; Application: Screwless Push In; Number of Pins: 9; Number of Rows: 1; Orientation: Horizontal Cable Entry; Lead Pitch: 5.08mm
footprint 691406510009B
pins: 1, 2, 3, 4, 5, 6, 7, 8, 9

## 691406510010B
designator J?  (value not drawn)
WR-TBL Series 4067B Horizontal cable entry, THT, pitch 5.08mm, 10p; Manufacturer: Wurth Elektronik; Modularity: Yes; Rated Current: 20A; Working Voltage: 300V (AC); Manufacturer Part Number: 691406510010B; Product Series: WR-TBL; ComponentLink1Description: Website Link; ComponentLink1URL: https://www.we-online.com; ComponentLink2Description: Datasheet Link; ComponentLink2URL: https://www.we-online.com/components/products/datasheet/691406510010B; Mount: Through Hole; Operating Temperature Min: -40degC; Operating Temperature Max: 105degC; Packaging: Carton; Application: Screwless Push In; Number of Pins: 10; Number of Rows: 1; Orientation: Horizontal Cable Entry; Lead Pitch: 5.08mm
footprint 691406510010B
pins: 1, 2, 3, 4, 5, 6, 7, 8, 9, 10

## 691406510011B
designator J?  (value not drawn)
WR-TBL Series 4067B Horizontal cable entry, THT, pitch 5.08mm, 11p; Manufacturer: Wurth Elektronik; Modularity: Yes; Rated Current: 20A; Working Voltage: 300V (AC); Manufacturer Part Number: 691406510011B; Product Series: WR-TBL; ComponentLink1Description: Website Link; ComponentLink1URL: https://www.we-online.com; ComponentLink2Description: Datasheet Link; ComponentLink2URL: https://www.we-online.com/components/products/datasheet/691406510011B; Mount: Through Hole; Operating Temperature Min: -40degC; Operating Temperature Max: 105degC; Packaging: Carton; Application: Screwless Push In; Number of Pins: 11; Number of Rows: 1; Orientation: Horizontal Cable Entry; Lead Pitch: 5.08mm
footprint 691406510011B
pins: 1, 2, 3, 4, 5, 6, 7, 8, 9, 10, 11

## 691406510012B
designator J?  (value not drawn)
WR-TBL Series 4067B Horizontal cable entry, THT, pitch 5.08mm, 12p; Manufacturer: Wurth Elektronik; Modularity: Yes; Rated Current: 20A; Working Voltage: 300V (AC); Manufacturer Part Number: 691406510012B; Product Series: WR-TBL; ComponentLink1Description: Website Link; ComponentLink1URL: https://www.we-online.com; ComponentLink2Description: Datasheet Link; ComponentLink2URL: https://www.we-online.com/components/products/datasheet/691406510012B; Mount: Through Hole; Operating Temperature Min: -40degC; Operating Temperature Max: 105degC; Packaging: Carton; Application: Screwless Push In; Number of Pins: 12; Number of Rows: 1; Orientation: Horizontal Cable Entry; Lead Pitch: 5.08mm
footprint 691406510012B
pins: 1, 2, 3, 4, 5, 6, 7, 8, 9, 10, 11, 12

## 691406710002B
designator J?  (value not drawn)
WR-TBL Series 4065B Horizontal cable entry, THT, pitch 5mm, 02p; Manufacturer: Wurth Elektronik; Modularity: Yes; Rated Current: 20A; Wire Section: 24 to 12 (AWG) 0.2 to 2.5 (mm^2); Working Voltage: 300V (AC); Manufacturer Part Number: 691406710002B; Product Series: WR-TBL; ComponentLink1Description: Website Link; ComponentLink1URL: https://www.we-online.com; ComponentLink2Description: Datasheet Link; ComponentLink2URL: https://www.we-online.com/components/products/datasheet/691406710002B; Mount: Through Hole; Operating Temperature Min: -40degC; Operating Temperature Max: 105degC; Packaging: Carton; Application: Screwless Push In; Number of Pins: 2; Number of Rows: 1; Orientation: Horizontal Cable Entry; Lead Pitch: 5mm
footprint 691406710002B
pins: 1, 2

## 691406710003B
designator J?  (value not drawn)
WR-TBL Series 4065B Horizontal cable entry, THT, pitch 5mm, 03p; Manufacturer: Wurth Elektronik; Modularity: Yes; Rated Current: 20A; Wire Section: 24 to 12 (AWG) 0.2 to 2.5 (mm^2); Working Voltage: 300V (AC); Manufacturer Part Number: 691406710003B; Product Series: WR-TBL; ComponentLink1Description: Website Link; ComponentLink1URL: https://www.we-online.com; ComponentLink2Description: Datasheet Link; ComponentLink2URL: https://www.we-online.com/components/products/datasheet/691406710003B; Mount: Through Hole; Operating Temperature Min: -40degC; Operating Temperature Max: 105degC; Packaging: Carton; Application: Screwless Push In; Number of Pins: 3; Number of Rows: 1; Orientation: Horizontal Cable Entry; Lead Pitch: 5mm
footprint 691406710003B
pins: 1, 2, 3

## 691406710004B
designator J?  (value not drawn)
WR-TBL Series 4065B Horizontal cable entry, THT, pitch 5mm, 04p; Manufacturer: Wurth Elektronik; Modularity: Yes; Rated Current: 20A; Wire Section: 24 to 12 (AWG) 0.2 to 2.5 (mm^2); Working Voltage: 300V (AC); Manufacturer Part Number: 691406710004B; Product Series: WR-TBL; ComponentLink1Description: Website Link; ComponentLink1URL: https://www.we-online.com; ComponentLink2Description: Datasheet Link; ComponentLink2URL: https://www.we-online.com/components/products/datasheet/691406710004B; Mount: Through Hole; Operating Temperature Min: -40degC; Operating Temperature Max: 105degC; Packaging: Carton; Application: Screwless Push In; Number of Pins: 4; Number of Rows: 1; Orientation: Horizontal Cable Entry; Lead Pitch: 5mm
footprint 691406710004B
pins: 1, 2, 3, 4

## 691406710005B
designator J?  (value not drawn)
WR-TBL Series 4065B Horizontal cable entry, THT, pitch 5mm, 05p; Manufacturer: Wurth Elektronik; Modularity: Yes; Rated Current: 20A; Wire Section: 24 to 12 (AWG) 0.2 to 2.5 (mm^2); Working Voltage: 300V (AC); Manufacturer Part Number: 691406710005B; Product Series: WR-TBL; ComponentLink1Description: Website Link; ComponentLink1URL: https://www.we-online.com; ComponentLink2Description: Datasheet Link; ComponentLink2URL: https://www.we-online.com/components/products/datasheet/691406710005B; Mount: Through Hole; Operating Temperature Min: -40degC; Operating Temperature Max: 105degC; Packaging: Carton; Application: Screwless Push In; Number of Pins: 5; Number of Rows: 1; Orientation: Horizontal Cable Entry; Lead Pitch: 5mm
footprint 691406710005B
pins: 1, 2, 3, 4, 5

## 691406710006B
designator J?  (value not drawn)
WR-TBL Series 4065B Horizontal cable entry, THT, pitch 5mm, 06p; Manufacturer: Wurth Elektronik; Modularity: Yes; Rated Current: 20A; Wire Section: 24 to 12 (AWG) 0.2 to 2.5 (mm^2); Working Voltage: 300V (AC); Manufacturer Part Number: 691406710006B; Product Series: WR-TBL; ComponentLink1Description: Website Link; ComponentLink1URL: https://www.we-online.com; ComponentLink2Description: Datasheet Link; ComponentLink2URL: https://www.we-online.com/components/products/datasheet/691406710006B; Mount: Through Hole; Operating Temperature Min: -40degC; Operating Temperature Max: 105degC; Packaging: Carton; Application: Screwless Push In; Number of Pins: 6; Number of Rows: 1; Orientation: Horizontal Cable Entry; Lead Pitch: 5mm
footprint 691406710006B
pins: 1, 2, 3, 4, 5, 6

## 691408520002B
designator J?  (value not drawn)
WR-TBL Series 4085B Screwless Push In 45° cable entry, THT, pitch 5.08mm, 02p; Manufacturer: Wurth Elektronik; Modularity: Yes; Rated Current: 15A; Wire Section: 28 to 12 (AWG) 0.2 to 2.5 (mm^2); Working Voltage: 300V (AC); Manufacturer Part Number: 691408520002B; Product Series: WR-TBL; ComponentLink1Description: Website Link; ComponentLink1URL: https://www.we-online.com; ComponentLink2Description: Datasheet Link; ComponentLink2URL: https://www.we-online.com/components/products/datasheet/691408520002B; Mount: Through Hole; Operating Temperature Min: -40degC; Operating Temperature Max: 105degC; Packaging: Carton; Application: Screwless Push In; Number of Pins: 2; Number of Rows: 1; Orientation: 45deg Cable Entry; Lead Pitch: 5.08mm
footprint 691408520002B
pins: 1, 2

## 691408520003B
designator J?  (value not drawn)
WR-TBL Series 4085B Screwless Push In 45° cable entry, THT, pitch 5.08mm, 03p; Manufacturer: Wurth Elektronik; Modularity: Yes; Rated Current: 15A; Wire Section: 28 to 12 (AWG) 0.2 to 2.5 (mm^2); Working Voltage: 300V (AC); Manufacturer Part Number: 691408520003B; Product Series: WR-TBL; ComponentLink1Description: Website Link; ComponentLink1URL: https://www.we-online.com; ComponentLink2Description: Datasheet Link; ComponentLink2URL: https://www.we-online.com/components/products/datasheet/691408520003B; Mount: Through Hole; Operating Temperature Min: -40degC; Operating Temperature Max: 105degC; Packaging: Carton; Application: Screwless Push In; Number of Pins: 3; Number of Rows: 1; Orientation: 45deg Cable Entry; Lead Pitch: 5.08mm
footprint 691408520003B
pins: 1, 2, 3

## 691408520004B
designator J?  (value not drawn)
WR-TBL Series 4085B Screwless Push In 45° cable entry, THT, pitch 5.08mm, 04p; Manufacturer: Wurth Elektronik; Modularity: Yes; Rated Current: 15A; Wire Section: 28 to 12 (AWG) 0.2 to 2.5 (mm^2); Working Voltage: 300V (AC); Manufacturer Part Number: 691408520004B; Product Series: WR-TBL; ComponentLink1Description: Website Link; ComponentLink1URL: https://www.we-online.com; ComponentLink2Description: Datasheet Link; ComponentLink2URL: https://www.we-online.com/components/products/datasheet/691408520004B; Mount: Through Hole; Operating Temperature Min: -40degC; Operating Temperature Max: 105degC; Packaging: Carton; Application: Screwless Push In; Number of Pins: 4; Number of Rows: 1; Orientation: 45deg Cable Entry; Lead Pitch: 5.08mm
footprint 691408520004B
pins: 1, 2, 3, 4

## 691408520005B
designator J?  (value not drawn)
WR-TBL Series 4085B Screwless Push In 45° cable entry, THT, pitch 5.08mm, 05p; Manufacturer: Wurth Elektronik; Modularity: Yes; Rated Current: 15A; Wire Section: 28 to 12 (AWG) 0.2 to 2.5 (mm^2); Working Voltage: 300V (AC); Manufacturer Part Number: 691408520005B; Product Series: WR-TBL; ComponentLink1Description: Website Link; ComponentLink1URL: https://www.we-online.com; ComponentLink2Description: Datasheet Link; ComponentLink2URL: https://www.we-online.com/components/products/datasheet/691408520005B; Mount: Through Hole; Operating Temperature Min: -40degC; Operating Temperature Max: 105degC; Packaging: Carton; Application: Screwless Push In; Number of Pins: 5; Number of Rows: 1; Orientation: 45deg Cable Entry; Lead Pitch: 5.08mm
footprint 691408520005B
pins: 1, 2, 3, 4, 5

## 691408520006B
designator J?  (value not drawn)
WR-TBL Series 4085B Screwless Push In 45° cable entry, THT, pitch 5.08mm, 06p; Manufacturer: Wurth Elektronik; Modularity: Yes; Rated Current: 15A; Wire Section: 28 to 12 (AWG) 0.2 to 2.5 (mm^2); Working Voltage: 300V (AC); Manufacturer Part Number: 691408520006B; Product Series: WR-TBL; ComponentLink1Description: Website Link; ComponentLink1URL: https://www.we-online.com; ComponentLink2Description: Datasheet Link; ComponentLink2URL: https://www.we-online.com/components/products/datasheet/691408520006B; Mount: Through Hole; Operating Temperature Min: -40degC; Operating Temperature Max: 105degC; Packaging: Carton; Application: Screwless Push In; Number of Pins: 6; Number of Rows: 1; Orientation: 45deg Cable Entry; Lead Pitch: 5.08mm
footprint 691408520006B
pins: 1, 2, 3, 4, 5, 6